# EAGLE library part BH1417F (library baiyun)
FM Transmitter
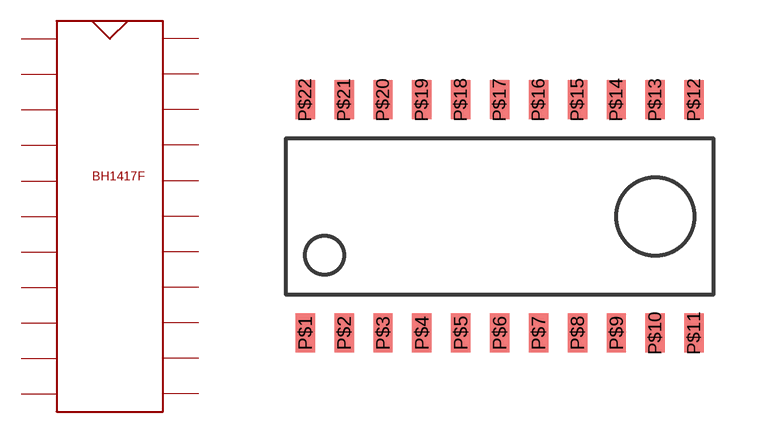
[diagram p200: symbol with the pads of SOP22; footprint SOP22]

Designator prefix -

## BH1417F  [SOP22]
P$1  P$1
P$2  P$2
P$3  P$3
P$4  P$4
P$5  P$5
P$6  P$6
P$7  P$7
P$8  P$8
P$9  P$9
P$10  P$10
P$11  P$11
P$12  P$12
P$13  P$13
P$14  P$14
P$15  P$15
P$16  P$16
P$17  P$17
P$18  P$18
P$19  P$19
P$20  P$20
P$21  P$21
P$22  P$22

## Footprint SOP22 (pad centres in mm)
SOP22
smd 0.635 x 1.27: P$1 0,0; P$2 1.27,0; P$3 2.54,0; P$4 3.81,0; P$5 5.08,0; P$6 6.35,0; P$7 7.62,0; P$8 8.89,0; P$9 10.16,0; P$10 11.43,0; P$11 12.7,0; P$12 12.7,7.62; P$13 11.43,7.62; P$14 10.16,7.62; P$15 8.89,7.62; P$16 7.62,7.62; P$17 6.35,7.62; P$18 5.08,7.62; P$19 3.81,7.62; P$20 2.54,7.62; P$21 1.27,7.62; P$22 0,7.62